# EAGLE library part ADS1115 (library Eagle_CAD_parts)
IC ADC 16BIT SIGMA-DELTA 10VSSOP
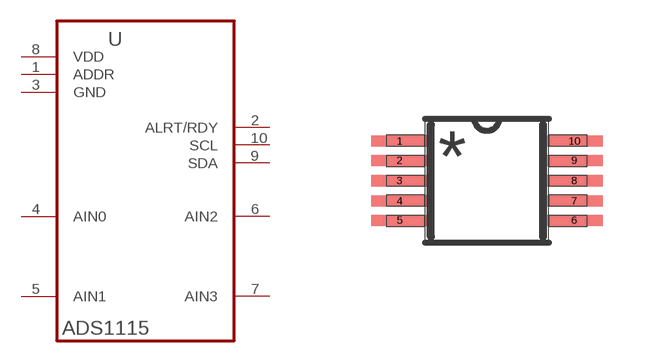
[diagram p4: symbol with the pads of 10-MSOP; footprint 10-MSOP]

Designator prefix U

## ADS1115_SMD (DIGIKEY_PART_NUMBER: 296-38849-1-ND; MANUFACTURER_PART_NUMBER: ADS1115IDGSR)  [10-MSOP]
1  ADDR  in
2  ALRT/RDY  out
3  GND  pas
4  AIN0  in
5  AIN1  in
6  AIN2  in
7  AIN3  in
8  VDD  pwr
9  SDA
10  SCL  in

## Footprint 10-MSOP (pad centres in mm)
smd 1.422 x 0.279: 1 -2.184,0.991; 2 -2.184,0.508; 3 -2.184,0; 4 -2.184,-0.508; 5 -2.184,-0.991; 6 2.184,-0.991; 7 2.184,-0.508; 8 2.184,0; 9 2.184,0.508; 10 2.184,0.991